# Altium footprint library ECSC2024.PcbLib: 16 footprints
Each footprint in its own frame and in the unit in brackets; x right, y up, seen from the top. Pads: shape width x height; smd on the part's side, far side on the other; paste and mask are expansions set on the pad; w line width, h text height; cw(c..) or ccw(c..) is an arc to the next point about the centre after c.
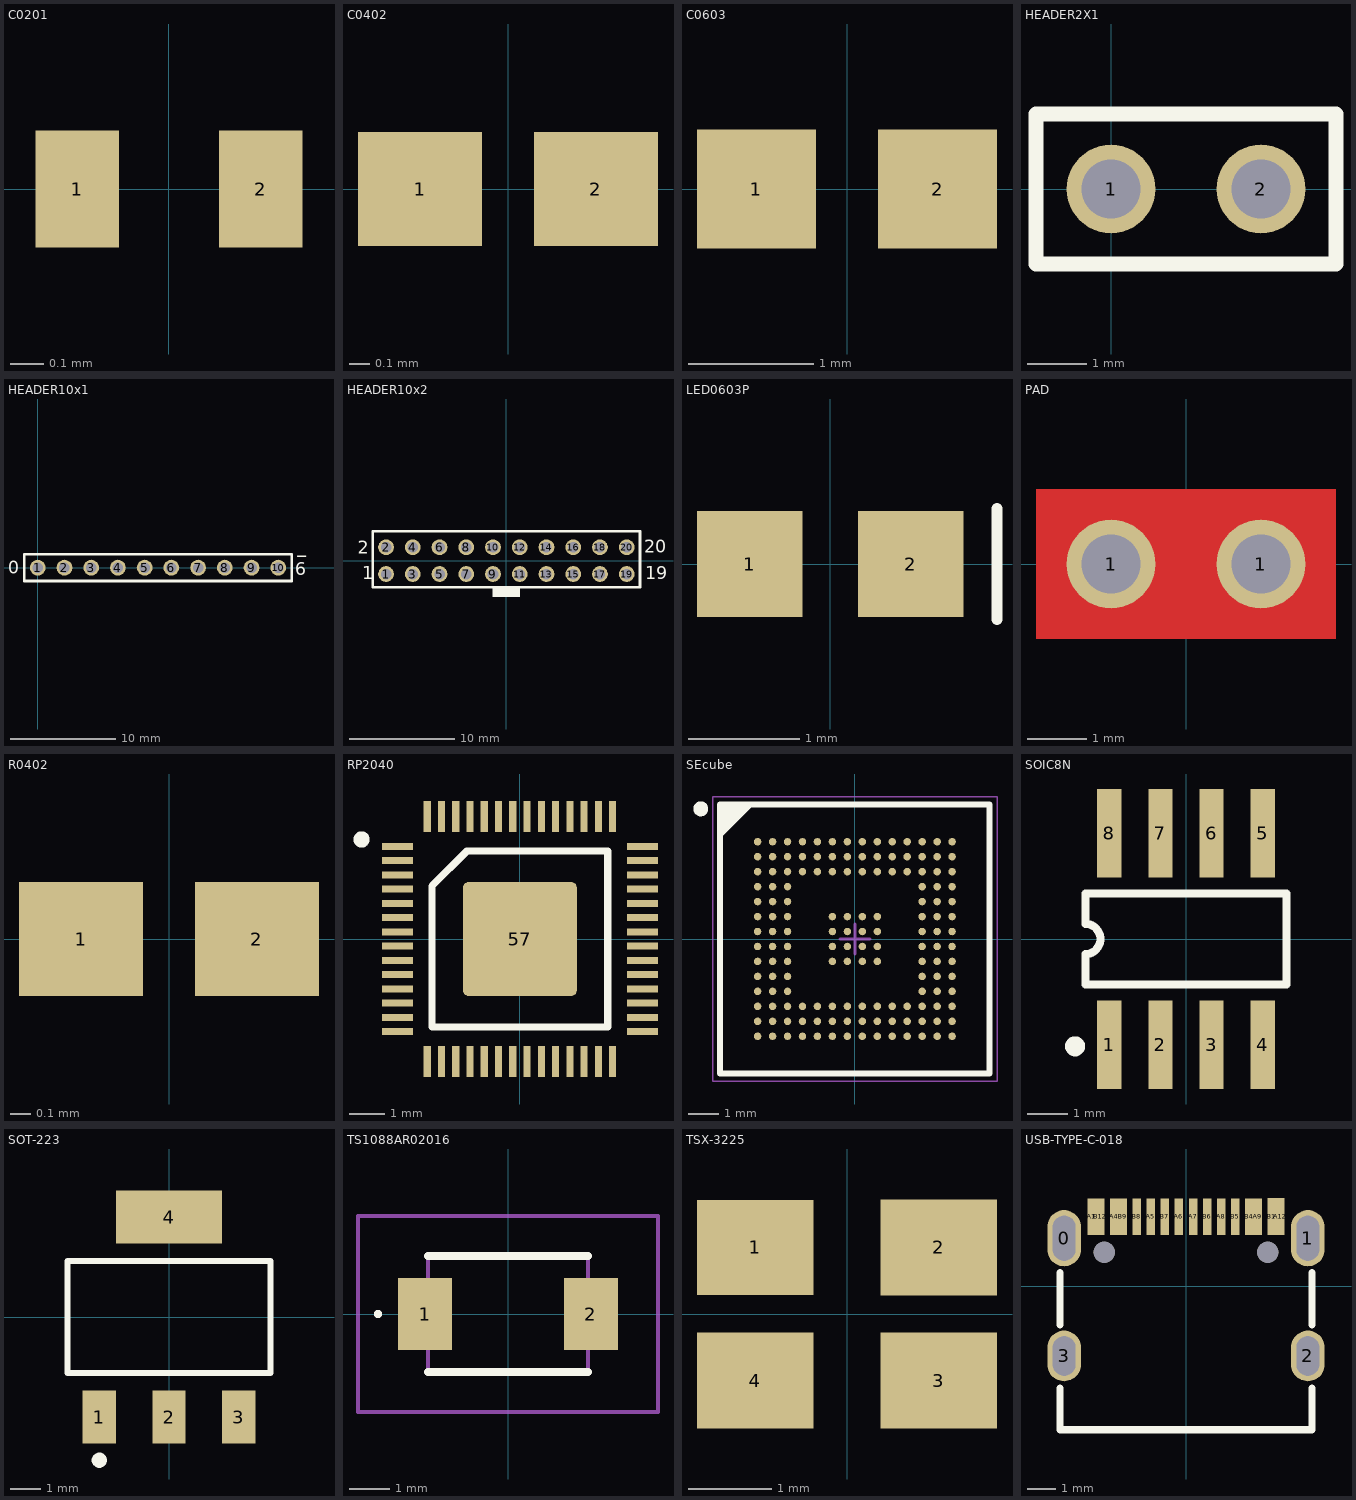
[diagram p0: the footprints below, top view; thin cyan lines are the x and y axes]

## C0201 [mm]
pads (2):
  rect 0.25x0.35 smd: 1(-0.275,0) 2(0.275,0)
3D body "User Library-Chip Cap_MLCC_0201 (0603).step": height 0.31, standoff 0.01, extent -0.296,-0.152 0.304,0.148

## C0402 [mm]
height 0.25
pads (2):
  rect 0.6x0.55 smd: 1(-0.425,0) 2(0.425,0)
3D body "CAP-0402.step": height 0.57, standoff 0, extent -0.5,-0.26 0.5,0.26

## C0603 [mm]
height 0.4
pads (2):
  rect 0.95x0.95 smd: 1(-0.725,0) 2(0.725,0)
3D body "CAP-0603.step": height 0.57, standoff 0, extent -0.8,-0.41 0.8,0.41

## HEADER2X1 [mm]
height 10
pads (2):
  round 1.5 hole 1: 1(0,0) 2(2.54,0)
Top Overlay:
  lines w0.254: -1.27,-1.27 -1.27,1.27 3.81,1.27 3.81,-1.27 -1.27,-1.27
3D body "m20-9960246.stp": height 2.55, standoff -2.99, extent -1.267,-0.341 3.813,10.879

## HEADER10x1 [mm]
height 10
pads (10):
  round 1.5 hole 1: 1(0,0) 2(2.54,0) 3(5.08,0) 4(7.62,0) 5(10.16,0) 6(12.7,0) 7(15.24,0) 8(17.78,0) 9(20.32,0) 10(22.86,0)
Top Overlay:
  lines w0.254: -1.27,-1.27 8.89,-1.27 24.13,-1.27 24.13,1.27 8.636,1.27 -1.27,1.27 -1.27,-1.27
  text "9" at 25.527,0.508 h1.2
  text "0" at -1.778,0.635 h1.2
  text "_" at 25.527,0.762 h1.2
3D body "m20-9961046.stp": height 2.55, standoff -2.99, extent -1.263,-10.822 24.137,0.398

## HEADER10x2 [mm]
height 10
pads (20):
  round 1.5 hole 1: 1(-11.43,-1.27) 2(-11.43,1.27) 3(-8.89,-1.27) 4(-8.89,1.27) 5(-6.35,-1.27) 6(-6.35,1.27) 7(-3.81,-1.27) 8(-3.81,1.27) 9(-1.27,-1.27) 10(-1.27,1.27) 11(1.27,-1.27) 12(1.27,1.27) 13(3.81,-1.27) 14(3.81,1.27) 15(6.35,-1.27) 16(6.35,1.27) 17(8.89,-1.27) 18(8.89,1.27) 19(11.43,-1.27) 20(11.43,1.27)
Top Overlay:
  region: -1.27,-2.413 -1.27,-3.429 1.27,-3.429 1.27,-2.413
  lines w0.254: -12.7,-2.54 -12.7,2.794 -5.588,2.794 12.7,2.794 12.7,-2.54 -2.54,-2.54 -12.7,-2.54
  text "2" at -14.097,0.635 h1.2
  text "20" at 13.081,0.762 h1.2
  text "1" at -13.716,-1.778 h1.2
  text "19" at 13.208,-1.778 h1.2
3D body "m20-9971046.stp": height 11.05, standoff -2.95, extent -12.579,-2.473 12.821,2.607

## LED0603P [mm]
height 0.4
pads (2):
  rect 0.95x0.95 smd: 1(-0.725,0) 2(0.725,0)
Top Overlay:
  lines w0.1: 1.5,-0.5 1.5,0.5
3D body "LED-0603-GREEN.STEP": height 0.72, standoff -0.03, extent -0.801,-0.4 0.81,0.4

## PAD [mm]
pads (2):
  round 1.5 hole 1 paste-2539.97: 1(-1.27,0) 1(1.27,0)
Top Layer:
  rectangle: -2.54,-1.27 2.54,1.27
Bottom Layer:
  rectangle: -2.54,-1.27 2.54,1.27

## R0402 [mm] "0402 foorprint SMT"
height 0.25
pads (2):
  rect 0.6x0.55 smd: 1(-0.425,0) 2(0.425,0)
3D body "RES-0402.step": height 0.3, standoff 0, extent -0.5,-0.25 0.5,0.25

## RP2040 [mm]
pads (57):
  rect 0.875x0.2 smd mask+0.05: 1(-3.437,2.6) 2(-3.437,2.2) 3(-3.437,1.8) 4(-3.437,1.4) 5(-3.437,1) 6(-3.437,0.6) 7(-3.437,0.2) 8(-3.437,-0.2) 9(-3.437,-0.6) 10(-3.437,-1) 11(-3.437,-1.4) 12(-3.437,-1.8) 13(-3.437,-2.2) 14(-3.437,-2.6) 29(3.437,-2.6) 30(3.437,-2.2) 31(3.437,-1.8) 32(3.437,-1.4) 33(3.437,-1) 34(3.437,-0.6) 35(3.437,-0.2) 36(3.437,0.2) 37(3.437,0.6) 38(3.437,1) 39(3.437,1.4) 40(3.437,1.8) 41(3.437,2.2) 42(3.437,2.6)
  rect 0.2x0.875 smd mask+0.05: 15(-2.6,-3.437) 16(-2.2,-3.437) 17(-1.8,-3.437) 18(-1.4,-3.437) 19(-1,-3.437) 20(-0.6,-3.437) 21(-0.2,-3.437) 22(0.2,-3.437) 23(0.6,-3.437) 24(1,-3.437) 25(1.4,-3.437) 26(1.8,-3.437) 27(2.2,-3.437) 28(2.6,-3.437) 43(2.6,3.437) 44(2.2,3.437) 45(1.8,3.437) 46(1.4,3.437) 47(1,3.437) 48(0.6,3.437) 49(0.2,3.437) 50(-0.2,3.437) 51(-0.6,3.437) 52(-1,3.437) 53(-1.4,3.437) 54(-1.8,3.437) 55(-2.2,3.437) 56(-2.6,3.437)
  rrect10% 3.2x3.2 smd mask+0: 57(0,0)
Top Overlay:
  circle w0.254: c-4.445,2.794 r0.1
  lines w0.2: -2.465,-2.465 -2.465,1.492 -1.492,2.465 2.465,2.465 2.465,-2.465 -2.465,-2.465
3D body "User Library-RP2040_QFN56_04.STEP": height 0.91, standoff 0.01, extent -3.52,-3.52 3.52,3.52

## SEcube [mm] "SEcube"
height 1
pads (148):
  round 0.25 smd paste-2539.97 mask-2539.97: A1(-3.25,3.25) A2(-2.75,3.25) A3(-2.25,3.25) A4(-1.75,3.25) A5(-1.25,3.25) A6(-0.75,3.25) A7(-0.25,3.25) A8(0.25,3.25) A9(0.75,3.25) A10(1.25,3.25) A11(1.75,3.25) A12(2.25,3.25) A13(2.75,3.25) A14(3.25,3.25) B1(-3.25,2.75) B2(-2.75,2.75) B3(-2.25,2.75) B4(-1.75,2.75) B5(-1.25,2.75) B6(-0.75,2.75) B7(-0.25,2.75) B8(0.25,2.75) B9(0.75,2.75) B10(1.25,2.75) B11(1.75,2.75) B12(2.25,2.75) B13(2.75,2.75) B14(3.25,2.75) C1(-3.25,2.25) C2(-2.75,2.25) C3(-2.25,2.25) C4(-1.75,2.25) C5(-1.25,2.25) C6(-0.75,2.25) C7(-0.25,2.25) C8(0.25,2.25) C9(0.75,2.25) C10(1.25,2.25) C11(1.75,2.25) C12(2.25,2.25) C13(2.75,2.25) C14(3.25,2.25) D1(-3.25,1.75) D2(-2.75,1.75) D3(-2.25,1.75) D12(2.25,1.75) D13(2.75,1.75) D14(3.25,1.75) E1(-3.25,1.25) E2(-2.75,1.25) E3(-2.25,1.25) E12(2.25,1.25) E13(2.75,1.25) E14(3.25,1.25) F1(-3.25,0.75) F2(-2.75,0.75) F3(-2.25,0.75) F6(-0.75,0.75) F7(-0.25,0.75) F8(0.25,0.75) F9(0.75,0.75) F12(2.25,0.75) F13(2.75,0.75) F14(3.25,0.75) G1(-3.25,0.25) G2(-2.75,0.25) G3(-2.25,0.25) G6(-0.75,0.25) G7(-0.25,0.25) G8(0.25,0.25) G9(0.75,0.25) G12(2.25,0.25) G13(2.75,0.25) G14(3.25,0.25) H1(-3.25,-0.25) H2(-2.75,-0.25) H3(-2.25,-0.25) H6(-0.75,-0.25) H7(-0.25,-0.25) H8(0.25,-0.25) H9(0.75,-0.25) H12(2.25,-0.25) H13(2.75,-0.25) H14(3.25,-0.25) J1(-3.25,-0.75) J2(-2.75,-0.75) J3(-2.25,-0.75) J6(-0.75,-0.75) J7(-0.25,-0.75) J8(0.25,-0.75) J9(0.75,-0.75) J12(2.25,-0.75) J13(2.75,-0.75) J14(3.25,-0.75) K1(-3.25,-1.25) K2(-2.75,-1.25) K3(-2.25,-1.25) K12(2.25,-1.25) K13(2.75,-1.25) K14(3.25,-1.25) L1(-3.25,-1.75) L2(-2.75,-1.75) L3(-2.25,-1.75) L12(2.25,-1.75) L13(2.75,-1.75) L14(3.25,-1.75) M1(-3.25,-2.25) M2(-2.75,-2.25) M3(-2.25,-2.25) M4(-1.75,-2.25) M5(-1.25,-2.25) M6(-0.75,-2.25) M7(-0.25,-2.25) M8(0.25,-2.25) M9(0.75,-2.25) M10(1.25,-2.25) M11(1.75,-2.25) M12(2.25,-2.25) M13(2.75,-2.25) M14(3.25,-2.25) N1(-3.25,-2.75) N2(-2.75,-2.75) N3(-2.25,-2.75) N4(-1.75,-2.75) N5(-1.25,-2.75) N6(-0.75,-2.75) N7(-0.25,-2.75) N8(0.25,-2.75) N9(0.75,-2.75) N10(1.25,-2.75) N11(1.75,-2.75) N12(2.25,-2.75) N13(2.75,-2.75) N14(3.25,-2.75) P1(-3.25,-3.25) P2(-2.75,-3.25) P3(-2.25,-3.25) P4(-1.75,-3.25) P5(-1.25,-3.25) P6(-0.75,-3.25) P7(-0.25,-3.25) P8(0.25,-3.25) P9(0.75,-3.25) P10(1.25,-3.25) P11(1.75,-3.25) P12(2.25,-3.25) P13(2.75,-3.25) P14(3.25,-3.25)
Top Overlay:
  circle w0.25: c-5.15,4.35 r0.125
  region: -3.5,4.5 -4.5,3.5 -4.5,4.5
  lines w0.2: -4.5,3.5 -3.5,4.5 ; -4.5,-4.5 -4.5,4.5 4.5,4.5 4.5,-4.5 -4.5,-4.5
Top Paste:
  circle w0.125: c-3.25,3.25 r0.062
  circle w0.125: c-2.75,3.25 r0.062
  circle w0.125: c-2.25,3.25 r0.062
  circle w0.125: c-1.75,3.25 r0.062
  circle w0.125: c-1.25,3.25 r0.062
  circle w0.125: c-0.75,3.25 r0.062
  circle w0.125: c-0.25,3.25 r0.062
  circle w0.125: c0.25,3.25 r0.062
  circle w0.125: c0.75,3.25 r0.062
  circle w0.125: c1.25,3.25 r0.062
  circle w0.125: c1.75,3.25 r0.062
  circle w0.125: c2.25,3.25 r0.062
  circle w0.125: c2.75,3.25 r0.062
  circle w0.125: c3.25,3.25 r0.062
  circle w0.125: c-3.25,2.75 r0.062
  circle w0.125: c-2.75,2.75 r0.062
  circle w0.125: c-2.25,2.75 r0.062
  circle w0.125: c-1.75,2.75 r0.062
  circle w0.125: c-1.25,2.75 r0.062
  circle w0.125: c-0.75,2.75 r0.062
  circle w0.125: c-0.25,2.75 r0.062
  circle w0.125: c0.25,2.75 r0.062
  circle w0.125: c0.75,2.75 r0.062
  circle w0.125: c1.25,2.75 r0.062
  circle w0.125: c1.75,2.75 r0.062
  circle w0.125: c2.25,2.75 r0.062
  circle w0.125: c2.75,2.75 r0.062
  circle w0.125: c3.25,2.75 r0.062
  circle w0.125: c-3.25,2.25 r0.062
  circle w0.125: c-2.75,2.25 r0.062
  circle w0.125: c-2.25,2.25 r0.062
  circle w0.125: c-1.75,2.25 r0.062
  circle w0.125: c-1.25,2.25 r0.062
  circle w0.125: c-0.75,2.25 r0.062
  circle w0.125: c-0.25,2.25 r0.062
  circle w0.125: c0.25,2.25 r0.062
  circle w0.125: c0.75,2.25 r0.062
  circle w0.125: c1.25,2.25 r0.062
  circle w0.125: c1.75,2.25 r0.062
  circle w0.125: c2.25,2.25 r0.062
  circle w0.125: c2.75,2.25 r0.062
  circle w0.125: c3.25,2.25 r0.062
  circle w0.125: c-3.25,1.75 r0.062
  circle w0.125: c-2.75,1.75 r0.062
  circle w0.125: c-2.25,1.75 r0.062
  circle w0.125: c2.25,1.75 r0.062
  circle w0.125: c2.75,1.75 r0.062
  circle w0.125: c3.25,1.75 r0.062
  circle w0.125: c-3.25,1.25 r0.062
  circle w0.125: c-2.75,1.25 r0.062
  circle w0.125: c-2.25,1.25 r0.062
  circle w0.125: c2.25,1.25 r0.062
  circle w0.125: c2.75,1.25 r0.062
  circle w0.125: c3.25,1.25 r0.062
  circle w0.125: c-3.25,0.75 r0.062
  circle w0.125: c-2.75,0.75 r0.062
  circle w0.125: c-2.25,0.75 r0.062
  circle w0.125: c-0.75,0.75 r0.062
  circle w0.125: c-0.25,0.75 r0.062
  circle w0.125: c0.25,0.75 r0.062
  circle w0.125: c0.75,0.75 r0.062
  circle w0.125: c2.25,0.75 r0.062
  circle w0.125: c2.75,0.75 r0.062
  circle w0.125: c3.25,0.75 r0.062
  circle w0.125: c-3.25,0.25 r0.062
  circle w0.125: c-2.75,0.25 r0.062
  circle w0.125: c-2.25,0.25 r0.062
  circle w0.125: c-0.75,0.25 r0.062
  circle w0.125: c-0.25,0.25 r0.062
  circle w0.125: c0.25,0.25 r0.062
  circle w0.125: c0.75,0.25 r0.062
  circle w0.125: c2.25,0.25 r0.062
  circle w0.125: c2.75,0.25 r0.062
  circle w0.125: c3.25,0.25 r0.062
  circle w0.125: c-3.25,-0.25 r0.062
  circle w0.125: c-2.75,-0.25 r0.062
  circle w0.125: c-2.25,-0.25 r0.062
  circle w0.125: c-0.75,-0.25 r0.062
  circle w0.125: c-0.25,-0.25 r0.062
  circle w0.125: c0.25,-0.25 r0.062
  circle w0.125: c0.75,-0.25 r0.062
  circle w0.125: c2.25,-0.25 r0.062
  circle w0.125: c2.75,-0.25 r0.062
  circle w0.125: c3.25,-0.25 r0.062
  circle w0.125: c-3.25,-0.75 r0.062
  circle w0.125: c-2.75,-0.75 r0.062
  circle w0.125: c-2.25,-0.75 r0.062
  circle w0.125: c-0.75,-0.75 r0.062
  circle w0.125: c-0.25,-0.75 r0.062
  circle w0.125: c0.25,-0.75 r0.062
  circle w0.125: c0.75,-0.75 r0.062
  circle w0.125: c2.25,-0.75 r0.062
  circle w0.125: c2.75,-0.75 r0.062
  circle w0.125: c3.25,-0.75 r0.062
  circle w0.125: c-3.25,-1.25 r0.062
  circle w0.125: c-2.75,-1.25 r0.062
  circle w0.125: c-2.25,-1.25 r0.062
  circle w0.125: c2.25,-1.25 r0.062
  circle w0.125: c2.75,-1.25 r0.062
  circle w0.125: c3.25,-1.25 r0.062
  circle w0.125: c-3.25,-1.75 r0.062
  circle w0.125: c-2.75,-1.75 r0.062
  circle w0.125: c-2.25,-1.75 r0.062
  circle w0.125: c2.25,-1.75 r0.062
  circle w0.125: c2.75,-1.75 r0.062
  circle w0.125: c3.25,-1.75 r0.062
  circle w0.125: c-3.25,-2.25 r0.062
  circle w0.125: c-2.75,-2.25 r0.062
  circle w0.125: c-2.25,-2.25 r0.062
  circle w0.125: c-1.75,-2.25 r0.062
  circle w0.125: c-1.25,-2.25 r0.062
  circle w0.125: c-0.75,-2.25 r0.062
  circle w0.125: c-0.25,-2.25 r0.062
  circle w0.125: c0.25,-2.25 r0.062
  circle w0.125: c0.75,-2.25 r0.062
  circle w0.125: c1.25,-2.25 r0.062
  circle w0.125: c1.75,-2.25 r0.062
  circle w0.125: c2.25,-2.25 r0.062
  circle w0.125: c2.75,-2.25 r0.062
  circle w0.125: c3.25,-2.25 r0.062
  circle w0.125: c-3.25,-2.75 r0.062
  circle w0.125: c-2.75,-2.75 r0.062
  circle w0.125: c-2.25,-2.75 r0.062
  circle w0.125: c-1.75,-2.75 r0.062
  circle w0.125: c-1.25,-2.75 r0.062
  circle w0.125: c-0.75,-2.75 r0.062
  circle w0.125: c-0.25,-2.75 r0.062
  circle w0.125: c0.25,-2.75 r0.062
  circle w0.125: c0.75,-2.75 r0.062
  circle w0.125: c1.25,-2.75 r0.062
  circle w0.125: c1.75,-2.75 r0.062
  circle w0.125: c2.25,-2.75 r0.062
  circle w0.125: c2.75,-2.75 r0.062
  circle w0.125: c3.25,-2.75 r0.062
  circle w0.125: c-3.25,-3.25 r0.062
  circle w0.125: c-2.75,-3.25 r0.062
  circle w0.125: c-2.25,-3.25 r0.062
  circle w0.125: c-1.75,-3.25 r0.062
  circle w0.125: c-1.25,-3.25 r0.062
  circle w0.125: c-0.75,-3.25 r0.062
  circle w0.125: c-0.25,-3.25 r0.062
  circle w0.125: c0.25,-3.25 r0.062
  circle w0.125: c0.75,-3.25 r0.062
  circle w0.125: c1.25,-3.25 r0.062
  circle w0.125: c1.75,-3.25 r0.062
  circle w0.125: c2.25,-3.25 r0.062
  circle w0.125: c2.75,-3.25 r0.062
  circle w0.125: c3.25,-3.25 r0.062
Top Solder:
  circle w0.125: c-3.25,3.25 r0.062
  circle w0.125: c-2.75,3.25 r0.062
  circle w0.125: c-2.25,3.25 r0.062
  circle w0.125: c-1.75,3.25 r0.062
  circle w0.125: c-1.25,3.25 r0.062
  circle w0.125: c-0.75,3.25 r0.062
  circle w0.125: c-0.25,3.25 r0.062
  circle w0.125: c0.25,3.25 r0.062
  circle w0.125: c0.75,3.25 r0.062
  circle w0.125: c1.25,3.25 r0.062
  circle w0.125: c1.75,3.25 r0.062
  circle w0.125: c2.25,3.25 r0.062
  circle w0.125: c2.75,3.25 r0.062
  circle w0.125: c3.25,3.25 r0.062
  circle w0.125: c-3.25,2.75 r0.062
  circle w0.125: c-2.75,2.75 r0.062
  circle w0.125: c-2.25,2.75 r0.062
  circle w0.125: c-1.75,2.75 r0.062
  circle w0.125: c-1.25,2.75 r0.062
  circle w0.125: c-0.75,2.75 r0.062
  circle w0.125: c-0.25,2.75 r0.062
  circle w0.125: c0.25,2.75 r0.062
  circle w0.125: c0.75,2.75 r0.062
  circle w0.125: c1.25,2.75 r0.062
  circle w0.125: c1.75,2.75 r0.062
  circle w0.125: c2.25,2.75 r0.062
  circle w0.125: c2.75,2.75 r0.062
  circle w0.125: c3.25,2.75 r0.062
  circle w0.125: c-3.25,2.25 r0.062
  circle w0.125: c-2.75,2.25 r0.062
  circle w0.125: c-2.25,2.25 r0.062
  circle w0.125: c-1.75,2.25 r0.062
  circle w0.125: c-1.25,2.25 r0.062
  circle w0.125: c-0.75,2.25 r0.062
  circle w0.125: c-0.25,2.25 r0.062
  circle w0.125: c0.25,2.25 r0.062
  circle w0.125: c0.75,2.25 r0.062
  circle w0.125: c1.25,2.25 r0.062
  circle w0.125: c1.75,2.25 r0.062
  circle w0.125: c2.25,2.25 r0.062
  circle w0.125: c2.75,2.25 r0.062
  circle w0.125: c3.25,2.25 r0.062
  circle w0.125: c-3.25,1.75 r0.062
  circle w0.125: c-2.75,1.75 r0.062
  circle w0.125: c-2.25,1.75 r0.062
  circle w0.125: c2.25,1.75 r0.062
  circle w0.125: c2.75,1.75 r0.062
  circle w0.125: c3.25,1.75 r0.062
  circle w0.125: c-3.25,1.25 r0.062
  circle w0.125: c-2.75,1.25 r0.062
  circle w0.125: c-2.25,1.25 r0.062
  circle w0.125: c2.25,1.25 r0.062
  circle w0.125: c2.75,1.25 r0.062
  circle w0.125: c3.25,1.25 r0.062
  circle w0.125: c-3.25,0.75 r0.062
  circle w0.125: c-2.75,0.75 r0.062
  circle w0.125: c-2.25,0.75 r0.062
  circle w0.125: c-0.75,0.75 r0.062
  circle w0.125: c-0.25,0.75 r0.062
  circle w0.125: c0.25,0.75 r0.062
  circle w0.125: c0.75,0.75 r0.062
  circle w0.125: c2.25,0.75 r0.062
  circle w0.125: c2.75,0.75 r0.062
  circle w0.125: c3.25,0.75 r0.062
  circle w0.125: c-3.25,0.25 r0.062
  circle w0.125: c-2.75,0.25 r0.062
  circle w0.125: c-2.25,0.25 r0.062
  circle w0.125: c-0.75,0.25 r0.062
  circle w0.125: c-0.25,0.25 r0.062
  circle w0.125: c0.25,0.25 r0.062
  circle w0.125: c0.75,0.25 r0.062
  circle w0.125: c2.25,0.25 r0.062
  circle w0.125: c2.75,0.25 r0.062
  circle w0.125: c3.25,0.25 r0.062
  circle w0.125: c-3.25,-0.25 r0.062
  circle w0.125: c-2.75,-0.25 r0.062
  circle w0.125: c-2.25,-0.25 r0.062
  circle w0.125: c-0.75,-0.25 r0.062
  circle w0.125: c-0.25,-0.25 r0.062
  circle w0.125: c0.25,-0.25 r0.062
  circle w0.125: c0.75,-0.25 r0.062
  circle w0.125: c2.25,-0.25 r0.062
  circle w0.125: c2.75,-0.25 r0.062
  circle w0.125: c3.25,-0.25 r0.062
  circle w0.125: c-3.25,-0.75 r0.062
  circle w0.125: c-2.75,-0.75 r0.062
  circle w0.125: c-2.25,-0.75 r0.062
  circle w0.125: c-0.75,-0.75 r0.062
  circle w0.125: c-0.25,-0.75 r0.062
  circle w0.125: c0.25,-0.75 r0.062
  circle w0.125: c0.75,-0.75 r0.062
  circle w0.125: c2.25,-0.75 r0.062
  circle w0.125: c2.75,-0.75 r0.062
  circle w0.125: c3.25,-0.75 r0.062
  circle w0.125: c-3.25,-1.25 r0.062
  circle w0.125: c-2.75,-1.25 r0.062
  circle w0.125: c-2.25,-1.25 r0.062
  circle w0.125: c2.25,-1.25 r0.062
  circle w0.125: c2.75,-1.25 r0.062
  circle w0.125: c3.25,-1.25 r0.062
  circle w0.125: c-3.25,-1.75 r0.062
  circle w0.125: c-2.75,-1.75 r0.062
  circle w0.125: c-2.25,-1.75 r0.062
  circle w0.125: c2.25,-1.75 r0.062
  circle w0.125: c2.75,-1.75 r0.062
  circle w0.125: c3.25,-1.75 r0.062
  circle w0.125: c-3.25,-2.25 r0.062
  circle w0.125: c-2.75,-2.25 r0.062
  circle w0.125: c-2.25,-2.25 r0.062
  circle w0.125: c-1.75,-2.25 r0.062
  circle w0.125: c-1.25,-2.25 r0.062
  circle w0.125: c-0.75,-2.25 r0.062
  circle w0.125: c-0.25,-2.25 r0.062
  circle w0.125: c0.25,-2.25 r0.062
  circle w0.125: c0.75,-2.25 r0.062
  circle w0.125: c1.25,-2.25 r0.062
  circle w0.125: c1.75,-2.25 r0.062
  circle w0.125: c2.25,-2.25 r0.062
  circle w0.125: c2.75,-2.25 r0.062
  circle w0.125: c3.25,-2.25 r0.062
  circle w0.125: c-3.25,-2.75 r0.062
  circle w0.125: c-2.75,-2.75 r0.062
  circle w0.125: c-2.25,-2.75 r0.062
  circle w0.125: c-1.75,-2.75 r0.062
  circle w0.125: c-1.25,-2.75 r0.062
  circle w0.125: c-0.75,-2.75 r0.062
  circle w0.125: c-0.25,-2.75 r0.062
  circle w0.125: c0.25,-2.75 r0.062
  circle w0.125: c0.75,-2.75 r0.062
  circle w0.125: c1.25,-2.75 r0.062
  circle w0.125: c1.75,-2.75 r0.062
  circle w0.125: c2.25,-2.75 r0.062
  circle w0.125: c2.75,-2.75 r0.062
  circle w0.125: c3.25,-2.75 r0.062
  circle w0.125: c-3.25,-3.25 r0.062
  circle w0.125: c-2.75,-3.25 r0.062
  circle w0.125: c-2.25,-3.25 r0.062
  circle w0.125: c-1.75,-3.25 r0.062
  circle w0.125: c-1.25,-3.25 r0.062
  circle w0.125: c-0.75,-3.25 r0.062
  circle w0.125: c-0.25,-3.25 r0.062
  circle w0.125: c0.25,-3.25 r0.062
  circle w0.125: c0.75,-3.25 r0.062
  circle w0.125: c1.25,-3.25 r0.062
  circle w0.125: c1.75,-3.25 r0.062
  circle w0.125: c2.25,-3.25 r0.062
  circle w0.125: c2.75,-3.25 r0.062
  circle w0.125: c3.25,-3.25 r0.062
Mechanical 13:
  lines w0.1: -4.5,-4.5 -4.5,4.5 4.5,4.5 4.5,-4.5 -4.5,-4.5
Mechanical 15:
  lines w0.05: -4.75,-4.75 -4.75,4.75 4.75,4.75 4.75,-4.75 -4.75,-4.75
  lines w0.1: -0.5,0 0.5,0 ; 0,-0.5 0,0.5
3D body "SEcube.step": height 1, standoff 0, extent -4.5,-4.5 4.5,4.5

## SOIC8N [mm] "Small Outline; 8 Leads; Body Width 3.9 mm; Pitch 1.27 mm"
height 1.75
pads (8):
  rect 0.6x2.2 smd: 1(-1.905,-2.625) 2(-0.635,-2.625) 3(0.635,-2.625) 4(1.905,-2.625) 5(1.905,2.625) 6(0.635,2.625) 7(-0.635,2.625) 8(-1.905,2.625)
Top Overlay:
  circle w0.25: c-2.755,-2.665 r0.125
  lines w0.2: -2.5,-1.125 -2.5,-0.375 ccw(c-2.5,0) -2.5,0.375 -2.5,1.125 2.5,1.125 2.5,-1.125 -2.5,-1.125
3D body "User Library-so8-3.step": height 1.7, standoff 0, extent -2.45,-3 2.45,3

## SOT-223 [mm] "SOT-223/SC-73; 4 Leads; Body 6.7 x 7.3 mm, inc. leads (LxW max)"
height 1.75
pads (4):
  rect 1.1x1.75 smd: 1(-2.3,-3.3) 2(0,-3.3) 3(2.3,-3.3)
  rect 3.5x1.75 smd: 4(0,3.3)
Top Overlay:
  circle w0.25: c-2.3,-4.725 r0.125
  lines w0.2: -3.35,-1.85 -3.35,1.85 3.35,1.85 3.35,-1.85 -3.35,-1.85
3D body "SOT-223-2.STEP": height 1.85, standoff -0.05, extent -3.35,-3.704 3.35,3.5

## TS1088AR02016 [mm]
pads (2):
  rect 1.35x1.8 smd: 1(-2.075,0) 2(2.075,0)
Top Overlay:
  lines w0.1: -3.3,0 cw(c-3.25,0) -3.2,0 cw(c-3.25,0) -3.3,0
  lines w0.2: -2,-1.45 2,-1.45 ; -2,1.45 2,1.45
Mechanical 13:
  lines w0.1: -2,-1.45 2,-1.45 2,1.45 -2,1.45 -2,-1.45
Mechanical 15:
  lines w0.1: -3.75,-2.45 3.75,-2.45 3.75,2.45 -3.75,2.45 -3.75,-2.45
3D body "ts-1185-b-a-b-b.stp": height 2.01, standoff 0.01, extent -2.5,-1.524 2.5,1.476

## TSX-3225 [mm] "SMT Shielded Crystal"
pads (4):
  rect 1.4x1.14 smd: 1(-1.1,0.8)
  rect 1.4x1.15 smd: 2(1.1,0.8) 3(1.1,-0.8) 4(-1.1,-0.8)
3D body "User Library-tsx-3225-1.step": height 0.6, standoff 0, extent -1.651,-1.25 1.549,1.25

## USB-TYPE-C-018 [mm]
pads (22):
  oval 1.2x2 hole 0.8 slot 1.6 at 90 deg paste-2539.97 mask+0.051: 0(-4.325,1.706) 1(4.325,1.706)
  oval 1.2x1.8 hole 0.8 slot 1.4 at 90 deg paste-2539.97 mask+0.051: 2(4.325,-2.474) 3(-4.325,-2.474)
  rect 0.3x1.3 smd paste-100 mask+0.051: A1(-3.35,2.474) A4(-2.55,2.474) A5(-1.25,2.474) A6(-0.25,2.474) A7(0.25,2.474) A8(1.25,2.474) A9(2.55,2.474) A12(3.35,2.474) B1(3.05,2.474) B4(2.25,2.474) B5(1.75,2.474) B6(0.75,2.474) B7(-0.75,2.474) B8(-1.75,2.474) B9(-2.25,2.474) B12(-3.05,2.474)
  round 0.75 hole 0.75 unplated paste-2539.97: ""(-2.9,1.206) ""(2.9,1.206)
Top Overlay:
  lines w0.254: -4.469,-3.613 -4.469,-5.094 4.471,-5.094 4.471,-3.612 ; -4.469,-1.376 -4.469,0.487 ; 4.471,-1.376 4.471,0.488
Top Paste:
  drawing of 16 lines, arcs and shapes, not listed
Mechanical 15:
  circle w0.25: c2.9,1.206 r0.125
  circle w0.25: c-2.9,1.206 r0.125
3D body "xb-acf016-1r-d.stp": height 3.17, standoff -0.99, extent -4.445,-5.069 4.495,2.529